# Altium schematic symbol library SCH - POWER - SWITCHMODE - TI TLV62568 DBV.SchLib: 1 symbol
Pins are listed as number, name and electrical type; pins without a type are passive.

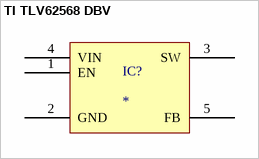
[diagram p0: symbol TI TLV62568 DBV]

## TI TLV62568 DBV
designator IC?
pins: 1 EN, 2 GND, 3 SW, 4 VIN, 5 FB